# Altium schematic symbol library Multiplexer.SchLib: 4 symbols
Pins are listed as number, name and electrical type; pins without a type are passive.

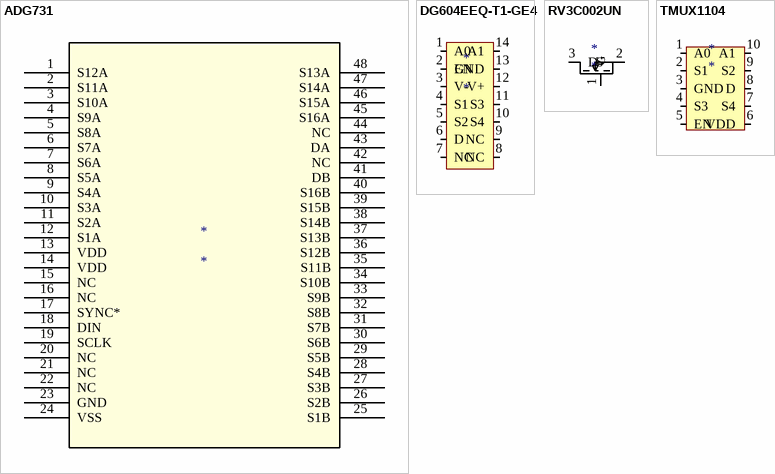
[diagram p0: symbols ADG731 to TMUX1104]

## ADG731
designator *
32-Channel, Serially Controlled 4 / 1.8 V to 5.5 V, 2.5 V, Analog Multiplexers
footprint ADG731
pins: 1 S12A, 2 S11A, 3 S10A, 4 S9A, 5 S8A, 6 S7A, 7 S6A, 8 S5A, 9 S4A, 10 S3A, 11 S2A, 12 S1A, 13 VDD (power), 14 VDD (power), 15 NC, 16 NC, 17 SYNC*, 18 DIN, 19 SCLK, 20 NC, 21 NC, 22 NC, 23 GND, 24 VSS (power), 25 S1B, 26 S2B, 27 S3B, 28 S4B, 29 S5B, 30 S6B, 31 S7B, 32 S8B, 33 S9B, 34 S10B, 35 S11B, 36 S12B, 37 S13B, 38 S14B, 39 S15B, 40 S16B, 41 DB, 42 NC, 43 DA, 44 NC, 45 S16A, 46 S15A, 47 S14A, 48 S13A

## DG604EEQ-T1-GE4
designator *
Multiplex-Schalter IC CMOS 4:1 Multiplxr 14-pin TSSOP
footprint DG604EEQ-T1-GE4 (Multiplex-Schalter IC CMOS 4:1 Multiplxr 14-pin TSSOP)
footprint DG604_mQFN (vishay, 4-Channel +-5V multiplexer); pin to pad 1>16 2>1 3>2 4>3 5>4 6>5 7>6 8>7 9>8 10>9 11>10 12>11 13>12 14>13
pins: 1 A0, 2 EN, 3 V-, 4 S1, 5 S2, 6 D, 7 NC, 8 NC, 9 NC, 10 S4, 11 S3, 12 V+, 13 GND, 14 A1

## RV3C002UN
designator *
DFN0604 N-Channel Mosfet
footprint RV3C002UN (DFN0604 N-Channel Mosfet)
pins: 1 G, 2 S, 3 D

## TMUX1104
designator *
4:1 MUX
footprint TMUX1104 (4:1 MUX)
footprint TMUX1104_legged
pins: 1 A0, 2 S1, 3 GND, 4 S3, 5 EN, 6 VDD, 7 S4, 8 D, 9 S2, 10 A1